# EAGLE library part MAX8903 (library X893)
http://www.maxim-ic.com/quick_view2.cfm/qv_pk/6019 Datasheet: http://datasheets.maxim-ic.com/en/ds/MAX8903A-MAX8903D.pdf Evaluation Kit: http://datasheets.maxim-ic.com/en/ds/MAX8903AEVKIT.pdf
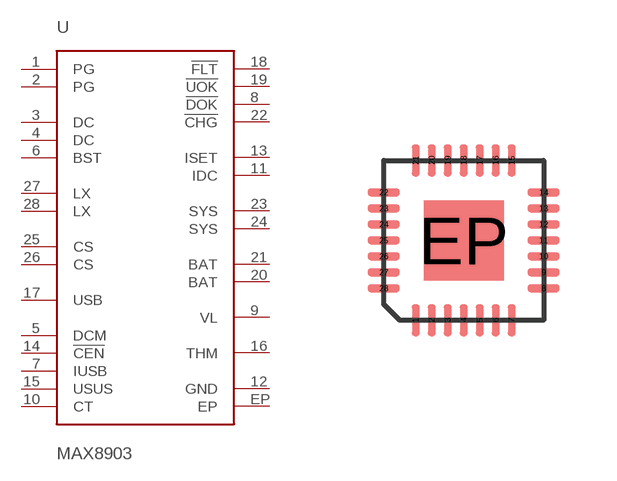
[diagram p58: symbol with the pads of QFN28-4X4; footprint QFN28-4X4]

Designator prefix -

## MAX8903  [QFN28-4X4]
1  PG
2  PG
3  DC
4  DC
5  DCM
6  BST
7  IUSB
8  !DOK
9  VL
10  CT
11  IDC
12  GND  pwr
13  ISET
14  !CEN
15  USUS
16  THM
17  USB
18  !FLT
19  !UOK
20  BAT
21  BAT
22  !CHG
23  SYS
24  SYS
25  CS
26  CS
27  LX
28  LX
EP  EP  pas

## Footprint QFN28-4X4 (pad centres in mm)
smd 0.2 x 0.8: 1 -1.2,-2; 2 -0.8,-2; 3 -0.4,-2; 4 0,-2; 5 0.4,-2; 6 0.8,-2; 7 1.2,-2; 15 1.2,2; 16 0.8,2; 17 0.4,2; 18 0,2; 19 -0.4,2; 20 -0.8,2; 21 -1.2,2
smd 0.8 x 0.2: 8 2,-1.2; 9 2,-0.8; 10 2,-0.4; 11 2,0; 12 2,0.4; 13 2,0.8; 14 2,1.2; 22 -2,1.2; 23 -2,0.8; 24 -2,0.4; 25 -2,0; 26 -2,-0.4; 27 -2,-0.8; 28 -2,-1.2
smd 2 x 2: EP 0,0